# Altium schematic symbol library 2N7001T-Q1.SchLib: 1 symbol
Pins are listed as number, name and electrical type; pins without a type are passive.

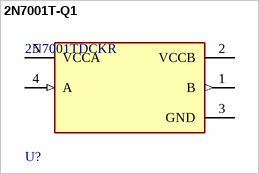
[diagram p0: symbol 2N7001T-Q1]

## 2N7001T-Q1
designator U?, comment 2N7001TDCKR
Automotive 1-bit dual-supply buffered voltage signal translator
pins: 1 B (out), 2 VCCB (power), 3 GND (power), 4 A (in), 5 VCCA (power)